# Altium footprint library AD7730BRUZ.PcbLib: 1 footprints
Each footprint in its own frame and in the unit in brackets; x right, y up, seen from the top. Pads: shape width x height; smd on the part's side, far side on the other; paste and mask are expansions set on the pad; w line width, h text height; cw(c..) or ccw(c..) is an arc to the next point about the centre after c.
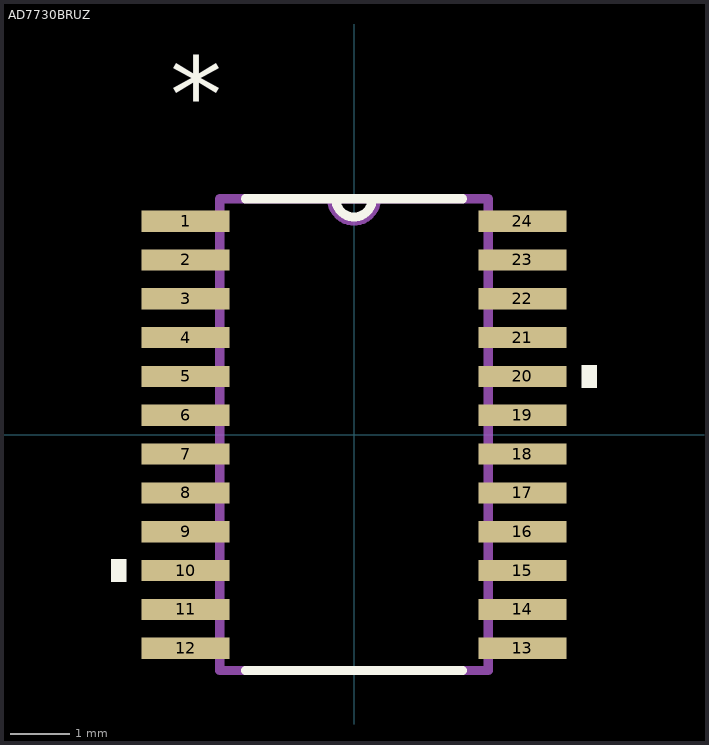
[diagram p0: the footprint, top view; thin cyan lines are the x and y axes]

## AD7730BRUZ [mil] "24 pin tssop"
height 47
pads (24):
  rect 58x14 smd: 1(-111,140.75) 2(-111,115.16) 3(-111,89.57) 4(-111,63.98) 5(-111,38.39) 6(-111,12.8) 7(-111,-12.8) 8(-111,-38.39) 9(-111,-63.98) 10(-111,-89.57) 11(-111,-115.16) 12(-111,-140.75) 13(111,-140.75) 14(111,-115.16) 15(111,-89.57) 16(111,-63.98) 17(111,-38.39) 18(111,-12.8) 19(111,12.8) 20(111,38.39) 21(111,63.98) 22(111,89.57) 23(111,115.16) 24(111,140.75)
Top Overlay:
  region: 150,45.89 160,45.89 160,30.89 150,30.89
  region: -150,-82.07 -160,-82.07 -160,-97.07 -150,-97.07
  lines w6: -71.56,-155.5 71.56,-155.5 ; -71.56,155.5 71.56,155.5 ; -12,155.5 ccw(c0,155.5) 12,155.5
  text "*" at -121,199.75 h50
Mechanical 1:
  lines w0: -12,155.5 ccw(c0,155.5) 12,155.5 ; -126,-146.75 -88.5,-146.75 -88.5,-134.75 -126,-134.75 -126,-146.75 ; -126,-121.16 -88.5,-121.16 -88.5,-109.16 -126,-109.16 -126,-121.16 ; -126,-95.57 -88.5,-95.57 -88.5,-83.57 -126,-83.57 -126,-95.57 ; -126,-69.98 -88.5,-69.98 -88.5,-57.98 -126,-57.98 -126,-69.98 ; -126,-44.39 -88.5,-44.39 -88.5,-32.39 -126,-32.39 -126,-44.39 ; -126,-18.8 -88.5,-18.8 -88.5,-6.8 -126,-6.8 -126,-18.8 ; -126,6.8 -88.5,6.8 -88.5,18.8 -126,18.8 -126,6.8 ; -126,32.39 -88.5,32.39 -88.5,44.39 -126,44.39 -126,32.39 ; -126,57.98 -88.5,57.98 -88.5,69.98 -126,69.98 -126,57.98 ; -126,83.57 -88.5,83.57 -88.5,95.57 -126,95.57 -126,83.57 ; -126,109.16 -88.5,109.16 -88.5,121.16 -126,121.16 -126,109.16 ; -126,134.75 -88.5,134.75 -88.5,146.75 -126,146.75 -126,134.75 ; -88.5,-155.5 -88.5,155.5 88.5,155.5 88.5,-155.5 -88.5,-155.5 ; 88.5,-146.75 126,-146.75 126,-134.75 88.5,-134.75 88.5,-146.75 ; 88.5,-121.16 126,-121.16 126,-109.16 88.5,-109.16 88.5,-121.16 ; 88.5,-95.57 126,-95.57 126,-83.57 88.5,-83.57 88.5,-95.57 ; 88.5,-69.98 126,-69.98 126,-57.98 88.5,-57.98 88.5,-69.98 ; 88.5,-44.39 126,-44.39 126,-32.39 88.5,-32.39 88.5,-44.39 ; 88.5,-18.8 126,-18.8 126,-6.8 88.5,-6.8 88.5,-18.8 ; 88.5,6.8 126,6.8 126,18.8 88.5,18.8 88.5,6.8 ; 88.5,32.39 126,32.39 126,44.39 88.5,44.39 88.5,32.39 ; 88.5,57.98 126,57.98 126,69.98 88.5,69.98 88.5,57.98 ; 88.5,83.57 126,83.57 126,95.57 88.5,95.57 88.5,83.57 ; 88.5,109.16 126,109.16 126,121.16 88.5,121.16 88.5,109.16 ; 88.5,134.75 126,134.75 126,146.75 88.5,146.75 88.5,134.75
  lines w6: -14.75,155.5 ccw(c0,155.5) 14.75,155.5 ; -88.5,-155.5 88.5,-155.5 88.5,155.5 -88.5,155.5 -88.5,-155.5
  text "*" at -121,199.75 h50